# Altium footprint library CD-MBL210S.PcbLib: 1 footprints
Each footprint in its own frame and in the unit in brackets; x right, y up, seen from the top. Pads: shape width x height; smd on the part's side, far side on the other; paste and mask are expansions set on the pad; w line width, h text height; cw(c..) or ccw(c..) is an arc to the next point about the centre after c.
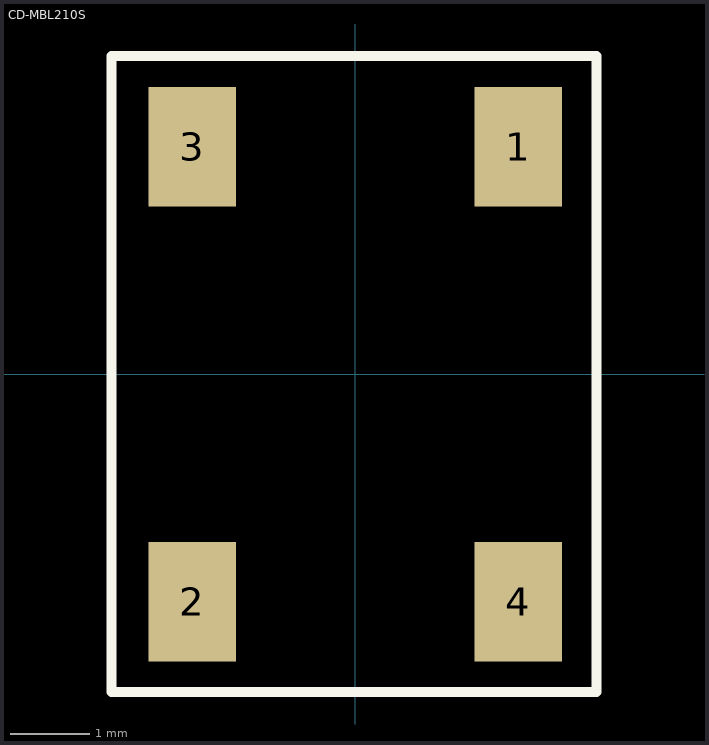
[diagram p0: the footprint, top view; thin cyan lines are the x and y axes]

## CD-MBL210S [mm] "CD-MBL210S"
pads (4):
  rect 1.1x1.5 smd: 1(2.05,2.86) 2(-2.05,-2.86) 3(-2.05,2.86) 4(2.05,-2.86)
Top Overlay:
  lines w0.127: -3.066,-3.998 3.03,-3.998 3.03,4.003 -3.066,4.003 -3.066,-3.998